# Altium integrated library Xilinx Spartan XL.IntLib: 50 symbols (part 5 of 5)
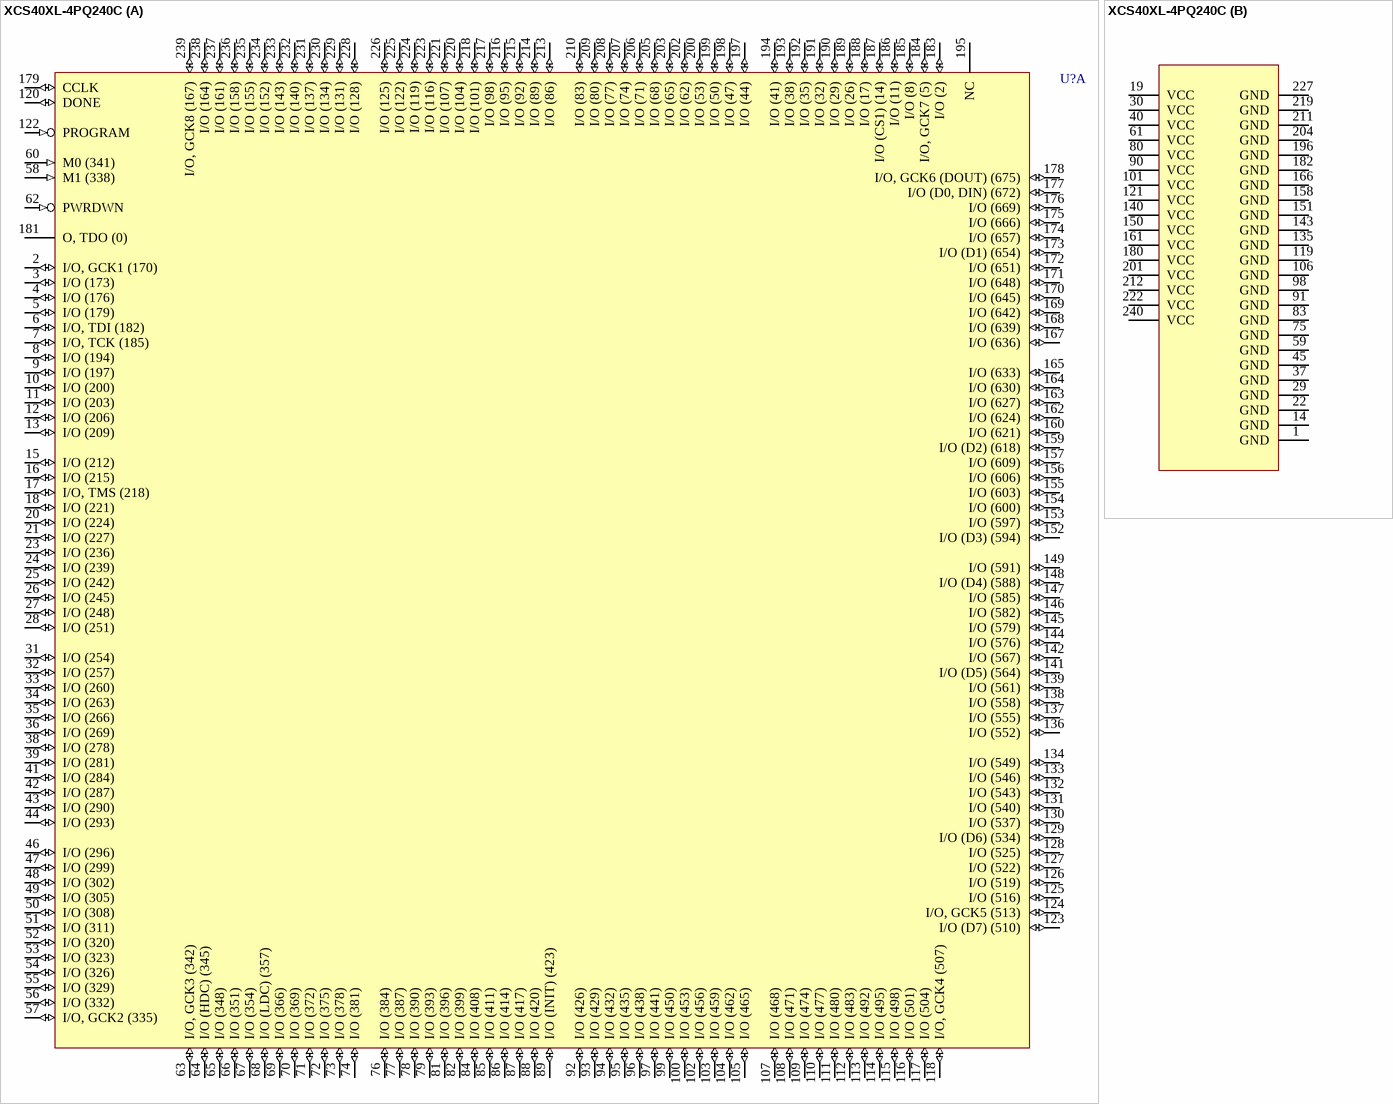
[diagram p36: symbol XCS40XL-4PQ240C]

## XCS40XL-4PQ240C
designator U?
Spartan XL FPGA, 240-Pin PQFP, Commercial Grade; Published: 13-Jul-2001; LatestRevisionDate: 13-Apr-2006; LatestRevisionNote: IPC-7351 Footprint Added.; DatasheetVersion: Jun-2002; PackageVersion: ver1.2, Jun-2004; PackageReference: PQ240; Publisher: Altium Limited; PackageDescription: 240-Pin Plastic Quad Flat Pack (PQ240); Code_JEDEC: MO-143-GA; ComponentLink1Description: Manufacturer Link; ComponentLink1URL: http://www.xilinx.com/xlnx/xil_prodcat_landingpage.jsp?title=Spartan; ComponentLink2Description: Datasheet; ComponentLink2URL: http://www.xilinx.com/bvdocs/publications/ds060.pdf
footprint PQ240_N (Shrink QFP, 240-Leads, Body 32x32mm, Pitch 0.5mm, IPC Medium Density)
footprint PQ240_L (Shrink QFP, 240-Leads, Body 32x32mm, Pitch 0.5mm, IPC High Density)
footprint PQ240_M (Shrink QFP, 240-Leads, Body 32x32mm, Pitch 0.5mm, IPC Low Density)
3D model XCS40XL-PQ240 (240-Pin Plastic Quad Flat Pack (PQ240))
part A pins: 2 I/O, GCK1 (170) (io), 3 I/O (173) (io), 4 I/O (176) (io), 5 I/O (179) (io), 6 I/O, TDI (182) (io), 7 I/O, TCK (185) (io), 8 I/O (194) (io), 9 I/O (197) (io), 10 I/O (200) (io), 11 I/O (203) (io), 12 I/O (206) (io), 13 I/O (209) (io), 15 I/O (212) (io), 16 I/O (215) (io), 17 I/O, TMS (218) (io), 18 I/O (221) (io), 20 I/O (224) (io), 21 I/O (227) (io), 23 I/O (236) (io), 24 I/O (239) (io), 25 I/O (242) (io), 26 I/O (245) (io), 27 I/O (248) (io), 28 I/O (251) (io), 31 I/O (254) (io), 32 I/O (257) (io), 33 I/O (260) (io), 34 I/O (263) (io), 35 I/O (266) (io), 36 I/O (269) (io), 38 I/O (278) (io), 39 I/O (281) (io), 41 I/O (284) (io), 42 I/O (287) (io), 43 I/O (290) (io), 44 I/O (293) (io), 46 I/O (296) (io), 47 I/O (299) (io), 48 I/O (302) (io), 49 I/O (305) (io), 50 I/O (308) (io), 51 I/O (311) (io), 52 I/O (320) (io), 53 I/O (323) (io), 54 I/O (326) (io), 55 I/O (329) (io), 56 I/O (332) (io), 57 I/O, GCK2 (335) (io), 58 M1 (338) (in), 60 M0 (341) (in), 62 PWRDWN (in), 63 I/O, GCK3 (342) (io), 64 I/O (HDC) (345) (io), 65 I/O (348) (io), 66 I/O (351) (io), 67 I/O (354) (io), 68 I/O (LDC) (357) (io), 69 I/O (366) (io), 70 I/O (369) (io), 71 I/O (372) (io), 72 I/O (375) (io), 73 I/O (378) (io), 74 I/O (381) (io), 76 I/O (384) (io), 77 I/O (387) (io), 78 I/O (390) (io), 79 I/O (393) (io), 81 I/O (396) (io), 82 I/O (399) (io), 84 I/O (408) (io), 85 I/O (411) (io), 86 I/O (414) (io), 87 I/O (417) (io), 88 I/O (420) (io), 89 I/O (INIT) (423) (io), 92 I/O (426) (io), 93 I/O (429) (io), 94 I/O (432) (io), 95 I/O (435) (io), 96 I/O (438) (io), 97 I/O (441) (io), 99 I/O (450) (io), 100 I/O (453) (io), 102 I/O (456) (io), 103 I/O (459) (io), 104 I/O (462) (io), 105 I/O (465) (io), 107 I/O (468) (io), 108 I/O (471) (io), 109 I/O (474) (io), 110 I/O (477) (io), 111 I/O (480) (io), 112 I/O (483) (io), 113 I/O (492) (io), 114 I/O (495) (io), 115 I/O (498) (io), 116 I/O (501) (io), 117 I/O (504) (io), 118 I/O, GCK4 (507) (io), 120 DONE (io), 122 PROGRAM (in), 123 I/O (D7) (510) (io), 124 I/O, GCK5 (513) (io), 125 I/O (516) (io), 126 I/O (519) (io), 127 I/O (522) (io), 128 I/O (525) (io), 129 I/O (D6) (534) (io), 130 I/O (537) (io), 131 I/O (540) (io), 132 I/O (543) (io), 133 I/O (546) (io), 134 I/O (549) (io), 136 I/O (552) (io), 137 I/O (555) (io), 138 I/O (558) (io), 139 I/O (561) (io), 141 I/O (D5) (564) (io), 142 I/O (567) (io), 144 I/O (576) (io), 145 I/O (579) (io), 146 I/O (582) (io), 147 I/O (585) (io), 148 I/O (D4) (588) (io), 149 I/O (591) (io), 152 I/O (D3) (594) (io), 153 I/O (597) (io), 154 I/O (600) (io), 155 I/O (603) (io), 156 I/O (606) (io), 157 I/O (609) (io), 159 I/O (D2) (618) (io), 160 I/O (621) (io), 162 I/O (624) (io), 163 I/O (627) (io), 164 I/O (630) (io), 165 I/O (633) (io), 167 I/O (636) (io), 168 I/O (639) (io), 169 I/O (642) (io), 170 I/O (645) (io), 171 I/O (648) (io), 172 I/O (651) (io), 173 I/O (D1) (654) (io), 174 I/O (657) (io), 175 I/O (666) (io), 176 I/O (669) (io), 177 I/O (D0, DIN) (672) (io), 178 I/O, GCK6 (DOUT) (675) (io), 179 CCLK (io), 181 O, TDO (0) (hiz), 183 I/O (2) (io), 184 I/O, GCK7 (5) (io), 185 I/O (8) (io), 186 I/O (11) (io), 187 I/O (CS1) (14) (io), 188 I/O (17) (io), 189 I/O (26) (io), 190 I/O (29) (io), 191 I/O (32) (io), 192 I/O (35) (io), 193 I/O (38) (io), 194 I/O (41) (io), 195 NC, 197 I/O (44) (io), 198 I/O (47) (io), 199 I/O (50) (io), 200 I/O (53) (io), 202 I/O (62) (io), 203 I/O (65) (io), 205 I/O (68) (io), 206 I/O (71) (io), 207 I/O (74) (io), 208 I/O (77) (io), 209 I/O (80) (io), 210 I/O (83) (io), 213 I/O (86) (io), 214 I/O (89) (io), 215 I/O (92) (io), 216 I/O (95) (io), 217 I/O (98) (io), 218 I/O (101) (io), 220 I/O (104) (io), 221 I/O (107) (io), 223 I/O (116) (io), 224 I/O (119) (io), 225 I/O (122) (io), 226 I/O (125) (io), 228 I/O (128) (io), 229 I/O (131) (io), 230 I/O (134) (io), 231 I/O (137) (io), 232 I/O (140) (io), 233 I/O (143) (io), 234 I/O (152) (io), 235 I/O (155) (io), 236 I/O (158) (io), 237 I/O (161) (io), 238 I/O (164) (io), 239 I/O, GCK8 (167) (io)
part B pins: 1 GND (power), 14 GND (power), 19 VCC (power), 22 GND (power), 29 GND (power), 30 VCC (power), 37 GND (power), 40 VCC (power), 45 GND (power), 59 GND (power), 61 VCC (power), 75 GND (power), 80 VCC (power), 83 GND (power), 90 VCC (power), 91 GND (power), 98 GND (power), 101 VCC (power), 106 GND (power), 119 GND (power), 121 VCC (power), 135 GND (power), 140 VCC (power), 143 GND (power), 150 VCC (power), 151 GND (power), 158 GND (power), 161 VCC (power), 166 GND (power), 180 VCC (power), 182 GND (power), 196 GND (power), 201 VCC (power), 204 GND (power), 211 GND (power), 212 VCC (power), 219 GND (power), 222 VCC (power), 227 GND (power), 240 VCC (power)

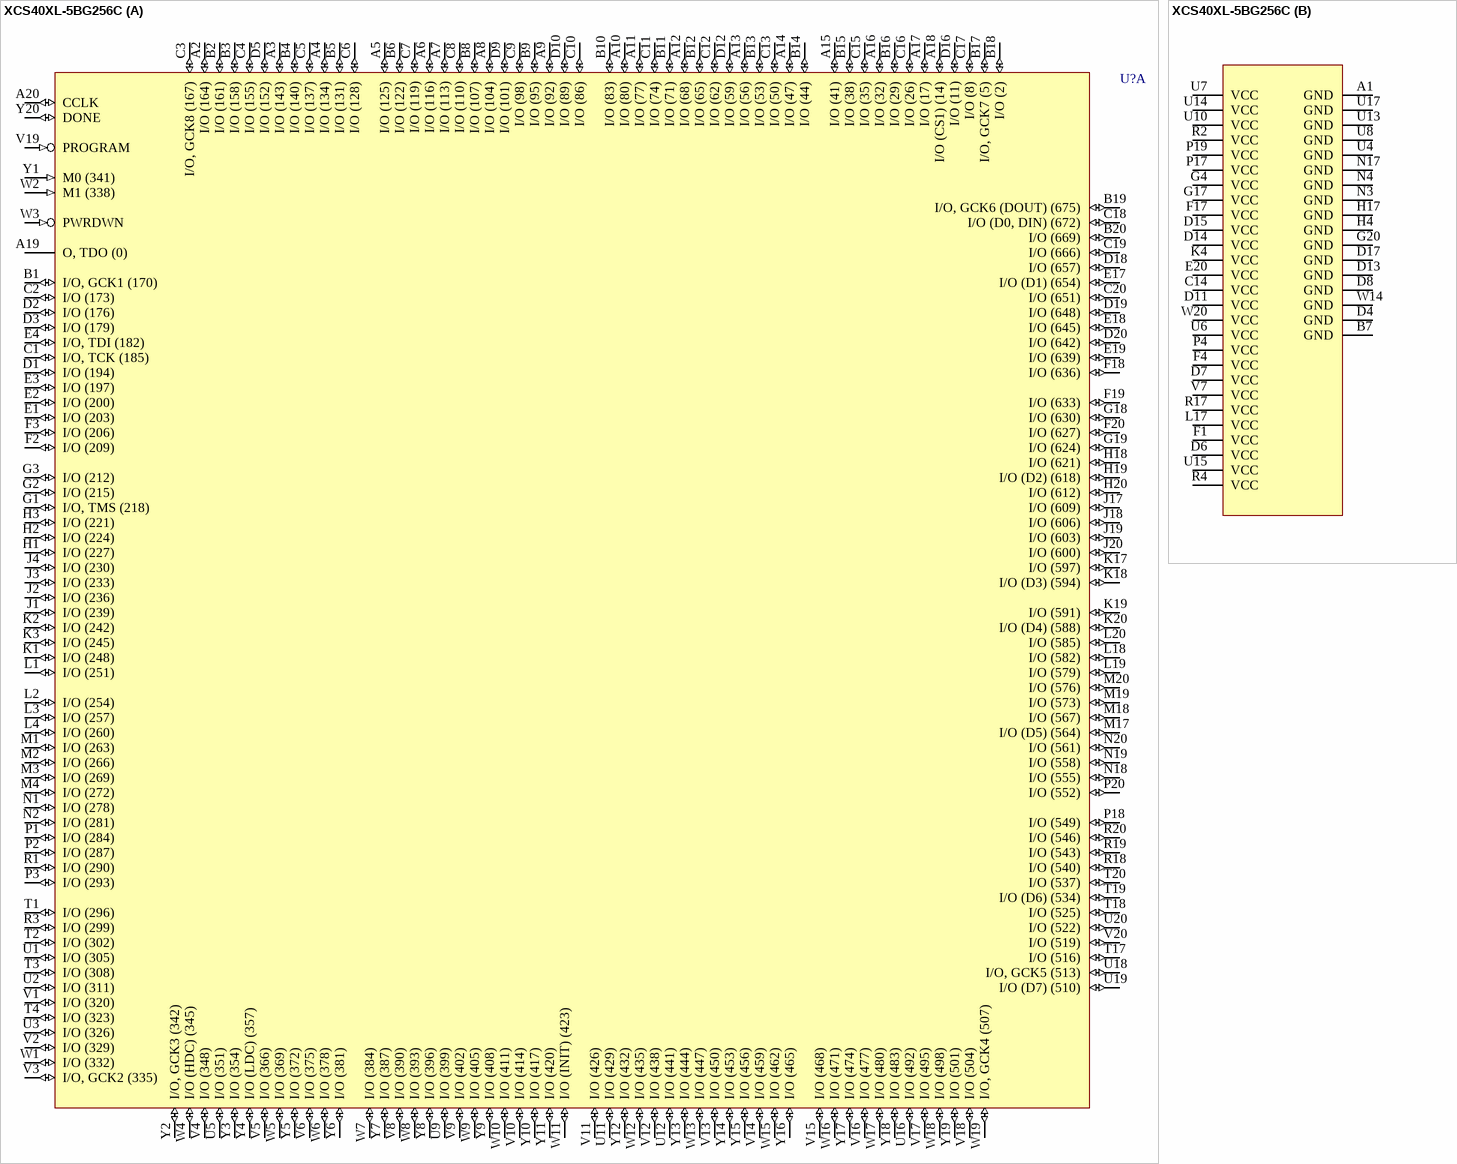
[diagram p29: symbol XCS40XL-5BG256C]

## XCS40XL-5BG256C
designator U?
Spartan XL FPGA, 256-Ball BGA, Commercial Grade; Published: 13-Jul-2001; LatestRevisionDate: 13-Apr-2006; LatestRevisionNote: IPC-7351 Footprint Added.; DatasheetVersion: Jun-2002; PackageVersion: ver1.1, Apr-2001; PackageReference: BG256; Publisher: Altium Limited; PackageDescription: 256-Ball Plastic Ball Grid Array (BG256); Code_JEDEC: MS-034-BAL-2; ComponentLink1Description: Manufacturer Link; ComponentLink1URL: http://www.xilinx.com/xlnx/xil_prodcat_landingpage.jsp?title=Spartan; ComponentLink2Description: Datasheet; ComponentLink2URL: http://www.xilinx.com/bvdocs/publications/ds060.pdf
footprint BG256 (BGA, 256-Leads, Body 27x27mm, Pitch 1.27mm)
3D model XCS40XL-BG256 (256-Ball Plastic Ball Grid Array (BG256))
part A pins: A2 I/O (164) (io), A3 I/O (143) (io), A4 I/O (134) (io), A5 I/O (125) (io), A6 I/O (116) (io), A7 I/O (113) (io), A8 I/O (104) (io), A9 I/O (92) (io), A10 I/O (80) (io), A11 I/O (77) (io), A12 I/O (68) (io), A13 I/O (56) (io), A14 I/O (47) (io), A15 I/O (41) (io), A16 I/O (32) (io), A17 I/O (17) (io), A18 I/O (CS1) (14) (io), A19 O, TDO (0) (hiz), A20 CCLK (io), B1 I/O, GCK1 (170) (io), B2 I/O (161) (io), B3 I/O (158) (io), B4 I/O (140) (io), B5 I/O (131) (io), B6 I/O (122) (io), B8 I/O (107) (io), B9 I/O (95) (io), B10 I/O (83) (io), B11 I/O (71) (io), B12 I/O (65) (io), B13 I/O (53) (io), B14 I/O (44) (io), B15 I/O (38) (io), B16 I/O (29) (io), B17 I/O, GCK7 (5) (io), B18 I/O (2) (io), B19 I/O, GCK6 (DOUT) (675) (io), B20 I/O (669) (io), C1 I/O, TCK (185) (io), C2 I/O (173) (io), C3 I/O, GCK8 (167) (io), C4 I/O (155) (io), C5 I/O (137) (io), C6 I/O (128) (io), C7 I/O (119) (io), C8 I/O (110) (io), C9 I/O (98) (io), C10 I/O (86) (io), C11 I/O (74) (io), C12 I/O (62) (io), C13 I/O (50) (io), C15 I/O (35) (io), C16 I/O (26) (io), C17 I/O (8) (io), C18 I/O (D0, DIN) (672) (io), C19 I/O (666) (io), C20 I/O (651) (io), D1 I/O (194) (io), D2 I/O (176) (io), D3 I/O (179) (io), D5 I/O (152) (io), D9 I/O (101) (io), D10 I/O (89) (io), D12 I/O (59) (io), D16 I/O (11) (io), D18 I/O (657) (io), D19 I/O (648) (io), D20 I/O (642) (io), E1 I/O (203) (io), E2 I/O (200) (io), E3 I/O (197) (io), E4 I/O, TDI (182) (io), E17 I/O (D1) (654) (io), E18 I/O (645) (io), E19 I/O (639) (io), F2 I/O (209) (io), F3 I/O (206) (io), F18 I/O (636) (io), F19 I/O (633) (io), F20 I/O (627) (io), G1 I/O, TMS (218) (io), G2 I/O (215) (io), G3 I/O (212) (io), G18 I/O (630) (io), G19 I/O (624) (io), H1 I/O (227) (io), H2 I/O (224) (io), H3 I/O (221) (io), H18 I/O (621) (io), H19 I/O (D2) (618) (io), H20 I/O (612) (io), J1 I/O (239) (io), J2 I/O (236) (io), J3 I/O (233) (io), J4 I/O (230) (io), J17 I/O (609) (io), J18 I/O (606) (io), J19 I/O (603) (io), J20 I/O (600) (io), K1 I/O (248) (io), K2 I/O (242) (io), K3 I/O (245) (io), K17 I/O (597) (io), K18 I/O (D3) (594) (io), K19 I/O (591) (io), K20 I/O (D4) (588) (io), L1 I/O (251) (io), L2 I/O (254) (io), L3 I/O (257) (io), L4 I/O (260) (io), L18 I/O (582) (io), L19 I/O (579) (io), L20 I/O (585) (io), M1 I/O (263) (io), M2 I/O (266) (io), M3 I/O (269) (io), M4 I/O (272) (io), M17 I/O (D5) (564) (io), M18 I/O (567) (io), M19 I/O (573) (io), M20 I/O (576) (io), N1 I/O (278) (io), N2 I/O (281) (io), N18 I/O (555) (io), N19 I/O (558) (io), N20 I/O (561) (io), P1 I/O (284) (io), P2 I/O (287) (io), P3 I/O (293) (io), P18 I/O (549) (io), P20 I/O (552) (io), R1 I/O (290) (io), R3 I/O (299) (io), R18 I/O (540) (io), R19 I/O (543) (io), R20 I/O (546) (io), T1 I/O (296) (io), T2 I/O (302) (io), T3 I/O (308) (io), T4 I/O (323) (io), T17 I/O (516) (io), T18 I/O (525) (io), T19 I/O (D6) (534) (io), T20 I/O (537) (io), U1 I/O (305) (io), U2 I/O (311) (io), U3 I/O (326) (io), U5 I/O (351) (io), U9 I/O (399) (io), U11 I/O (429) (io), U12 I/O (441) (io), U16 I/O (492) (io), U18 I/O, GCK5 (513) (io), U19 I/O (D7) (510) (io), U20 I/O (522) (io), V1 I/O (320) (io), V2 I/O (329) (io), V3 I/O, GCK2 (335) (io), V4 I/O (348) (io), V5 I/O (366) (io), V6 I/O (375) (io), V8 I/O (390) (io), V9 I/O (402) (io), V10 I/O (414) (io), V11 I/O (426) (io), V12 I/O (438) (io), V13 I/O (450) (io), V14 I/O (459) (io), V15 I/O (468) (io), V16 I/O (477) (io), V17 I/O (495) (io), V18 I/O (504) (io), V19 PROGRAM (in), V20 I/O (519) (io), W1 I/O (332) (io), W2 M1 (338) (in), W3 PWRDWN (in), W4 I/O (HDC) (345) (io), W5 I/O (369) (io), W6 I/O (378) (io), W7 I/O (384) (io), W8 I/O (393) (io), W9 I/O (405) (io), W10 I/O (411) (io), W11 I/O (INIT) (423) (io), W12 I/O (435) (io), W13 I/O (447) (io), W15 I/O (462) (io), W16 I/O (471) (io), W17 I/O (480) (io), W18 I/O (498) (io), W19 I/O, GCK4 (507) (io), Y1 M0 (341) (in), Y2 I/O, GCK3 (342) (io), Y3 I/O (354) (io), Y4 I/O (LDC) (357) (io), Y5 I/O (372) (io), Y6 I/O (381) (io), Y7 I/O (387) (io), Y8 I/O (396) (io), Y9 I/O (408) (io), Y10 I/O (417) (io), Y11 I/O (420) (io), Y12 I/O (432) (io), Y13 I/O (444) (io), Y14 I/O (453) (io), Y15 I/O (456) (io), Y16 I/O (465) (io), Y17 I/O (474) (io), Y18 I/O (483) (io), Y19 I/O (501) (io), Y20 DONE (io)
part B pins: A1 GND (power), B7 GND (power), C14 VCC (power), D4 GND (power), D6 VCC (power), D7 VCC (power), D8 GND (power), D11 VCC (power), D13 GND (power), D14 VCC (power), D15 VCC (power), D17 GND (power), E20 VCC (power), F1 VCC (power), F4 VCC (power), F17 VCC (power), G4 VCC (power), G17 VCC (power), G20 GND (power), H4 GND (power), H17 GND (power), K4 VCC (power), L17 VCC (power), N3 GND (power), N4 GND (power), N17 GND (power), P4 VCC (power), P17 VCC (power), P19 VCC (power), R2 VCC (power), R4 VCC (power), R17 VCC (power), U4 GND (power), U6 VCC (power), U7 VCC (power), U8 GND (power), U10 VCC (power), U13 GND (power), U14 VCC (power), U15 VCC (power), U17 GND (power), V7 VCC (power), W14 GND (power), W20 VCC (power)

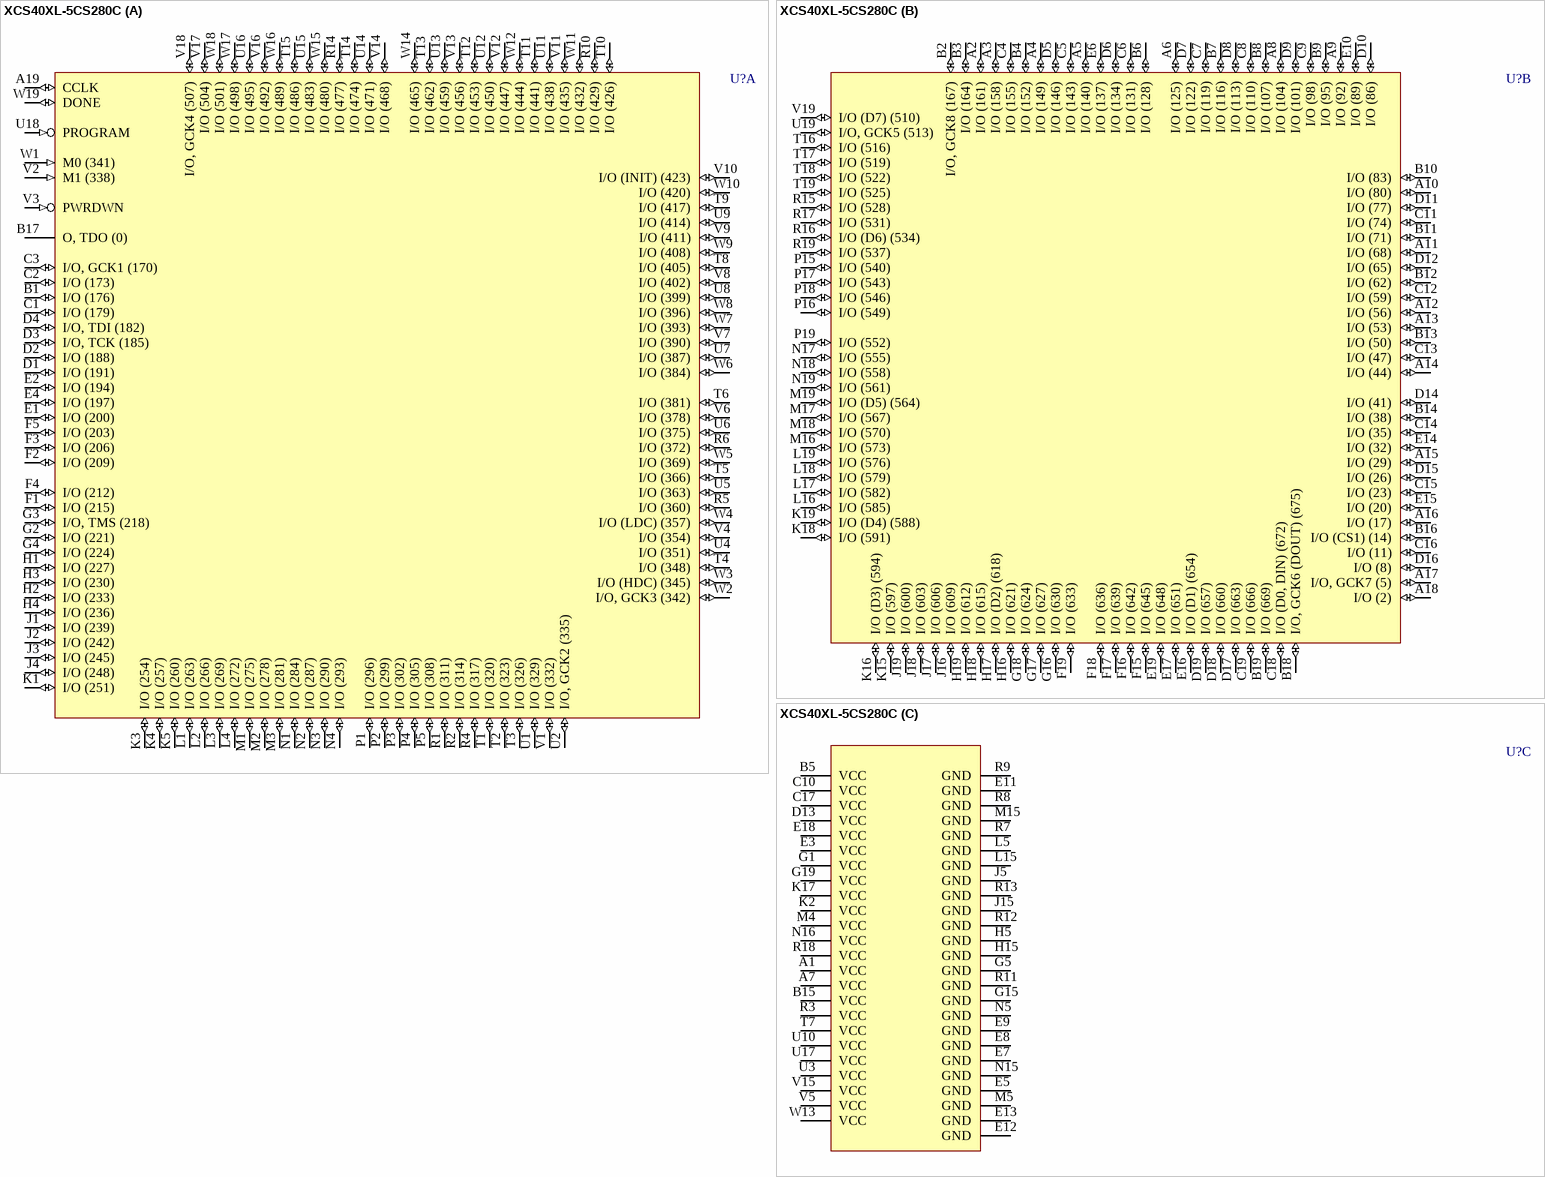
[diagram p30: symbol XCS40XL-5CS280C]

## XCS40XL-5CS280C
designator U?
Spartan XL FPGA, 280-Ball CSBGA, Commercial Grade; Published: 13-Jul-2001; LatestRevisionDate: 13-Apr-2006; LatestRevisionNote: IPC-7351 Footprint Added.; DatasheetVersion: Jun-2002; PackageVersion: ver1.2.2, Nov-2005; PackageReference: CS280; Publisher: Altium Limited; PackageDescription: 280-Ball Chip Scale Ball Grid Array (CS280); Code_JEDEC: MO-216-BAL-1 (Depopulated); ComponentLink1Description: Manufacturer Link; ComponentLink1URL: http://www.xilinx.com/xlnx/xil_prodcat_landingpage.jsp?title=Spartan; ComponentLink2Description: Datasheet; ComponentLink2URL: http://www.xilinx.com/bvdocs/publications/ds060.pdf
footprint CS280 (BGA, 280-Leads, Body 16x16mm, Pitch 0.8mm)
3D model XCS40XL-CS280 (280-Ball Chip Scale Ball Grid Array (CS280))
part A pins: A19 CCLK (io), B1 I/O (176) (io), B17 O, TDO (0) (hiz), C1 I/O (179) (io), C2 I/O (173) (io), C3 I/O, GCK1 (170) (io), D1 I/O (191) (io), D2 I/O (188) (io), D3 I/O, TCK (185) (io), D4 I/O, TDI (182) (io), E1 I/O (200) (io), E2 I/O (194) (io), E4 I/O (197) (io), F1 I/O (215) (io), F2 I/O (209) (io), F3 I/O (206) (io), F4 I/O (212) (io), F5 I/O (203) (io), G2 I/O (221) (io), G3 I/O, TMS (218) (io), G4 I/O (224) (io), H1 I/O (227) (io), H2 I/O (233) (io), H3 I/O (230) (io), H4 I/O (236) (io), J1 I/O (239) (io), J2 I/O (242) (io), J3 I/O (245) (io), J4 I/O (248) (io), K1 I/O (251) (io), K3 I/O (254) (io), K4 I/O (257) (io), K5 I/O (260) (io), L1 I/O (263) (io), L2 I/O (266) (io), L3 I/O (269) (io), L4 I/O (272) (io), M1 I/O (275) (io), M2 I/O (278) (io), M3 I/O (281) (io), N1 I/O (284) (io), N2 I/O (287) (io), N3 I/O (290) (io), N4 I/O (293) (io), P1 I/O (296) (io), P2 I/O (299) (io), P3 I/O (302) (io), P4 I/O (305) (io), P5 I/O (308) (io), R1 I/O (311) (io), R2 I/O (314) (io), R4 I/O (317) (io), R5 I/O (360) (io), R6 I/O (372) (io), R10 I/O (429) (io), R14 I/O (477) (io), T1 I/O (320) (io), T2 I/O (323) (io), T3 I/O (326) (io), T4 I/O (348) (io), T5 I/O (366) (io), T6 I/O (381) (io), T8 I/O (405) (io), T9 I/O (417) (io), T10 I/O (426) (io), T11 I/O (441) (io), T12 I/O (453) (io), T13 I/O (462) (io), T14 I/O (474) (io), T15 I/O (486) (io), U1 I/O (329) (io), U2 I/O, GCK2 (335) (io), U4 I/O (351) (io), U5 I/O (363) (io), U6 I/O (375) (io), U7 I/O (387) (io), U8 I/O (399) (io), U9 I/O (414) (io), U11 I/O (438) (io), U12 I/O (450) (io), U13 I/O (459) (io), U14 I/O (471) (io), U15 I/O (483) (io), U16 I/O (495) (io), U18 PROGRAM (in), V1 I/O (332) (io), V2 M1 (338) (in), V3 PWRDWN (in), V4 I/O (354) (io), V6 I/O (378) (io), V7 I/O (390) (io), V8 I/O (402) (io), V9 I/O (411) (io), V10 I/O (INIT) (423) (io), V11 I/O (435) (io), V12 I/O (447) (io), V13 I/O (456) (io), V14 I/O (468) (io), V16 I/O (492) (io), V17 I/O (504) (io), V18 I/O, GCK4 (507) (io), W1 M0 (341) (in), W2 I/O, GCK3 (342) (io), W3 I/O (HDC) (345) (io), W4 I/O (LDC) (357) (io), W5 I/O (369) (io), W6 I/O (384) (io), W7 I/O (393) (io), W8 I/O (396) (io), W9 I/O (408) (io), W10 I/O (420) (io), W11 I/O (432) (io), W12 I/O (444) (io), W14 I/O (465) (io), W15 I/O (480) (io), W16 I/O (489) (io), W17 I/O (498) (io), W18 I/O (501) (io), W19 DONE (io)
part B pins: A2 I/O (161) (io), A3 I/O (158) (io), A4 I/O (149) (io), A5 I/O (140) (io), A6 I/O (125) (io), A8 I/O (104) (io), A9 I/O (92) (io), A10 I/O (80) (io), A11 I/O (68) (io), A12 I/O (56) (io), A13 I/O (53) (io), A14 I/O (44) (io), A15 I/O (29) (io), A16 I/O (17) (io), A17 I/O, GCK7 (5) (io), A18 I/O (2) (io), B2 I/O, GCK8 (167) (io), B3 I/O (164) (io), B4 I/O (152) (io), B6 I/O (128) (io), B7 I/O (116) (io), B8 I/O (107) (io), B9 I/O (95) (io), B10 I/O (83) (io), B11 I/O (71) (io), B12 I/O (62) (io), B13 I/O (50) (io), B14 I/O (38) (io), B16 I/O (CS1) (14) (io), B18 I/O, GCK6 (DOUT) (675) (io), B19 I/O (669) (io), C4 I/O (155) (io), C5 I/O (143) (io), C6 I/O (131) (io), C7 I/O (119) (io), C8 I/O (110) (io), C9 I/O (98) (io), C11 I/O (74) (io), C12 I/O (59) (io), C13 I/O (47) (io), C14 I/O (35) (io), C15 I/O (23) (io), C16 I/O (11) (io), C18 I/O (D0, DIN) (672) (io), C19 I/O (666) (io), D5 I/O (146) (io), D6 I/O (134) (io), D7 I/O (122) (io), D8 I/O (113) (io), D9 I/O (101) (io), D10 I/O (86) (io), D11 I/O (77) (io), D12 I/O (65) (io), D14 I/O (41) (io), D15 I/O (26) (io), D16 I/O (8) (io), D17 I/O (663) (io), D18 I/O (660) (io), D19 I/O (657) (io), E6 I/O (137) (io), E10 I/O (89) (io), E14 I/O (32) (io), E15 I/O (20) (io), E16 I/O (D1) (654) (io), E17 I/O (651) (io), E19 I/O (648) (io), F15 I/O (645) (io), F16 I/O (642) (io), F17 I/O (639) (io), F18 I/O (636) (io), F19 I/O (633) (io), G16 I/O (630) (io), G17 I/O (627) (io), G18 I/O (624) (io), H16 I/O (621) (io), H17 I/O (D2) (618) (io), H18 I/O (615) (io), H19 I/O (612) (io), J16 I/O (609) (io), J17 I/O (606) (io), J18 I/O (603) (io), J19 I/O (600) (io), K15 I/O (597) (io), K16 I/O (D3) (594) (io), K18 I/O (591) (io), K19 I/O (D4) (588) (io), L16 I/O (585) (io), L17 I/O (582) (io), L18 I/O (579) (io), L19 I/O (576) (io), M16 I/O (573) (io), M17 I/O (567) (io), M18 I/O (570) (io), M19 I/O (D5) (564) (io), N17 I/O (555) (io), N18 I/O (558) (io), N19 I/O (561) (io), P15 I/O (540) (io), P16 I/O (549) (io), P17 I/O (543) (io), P18 I/O (546) (io), P19 I/O (552) (io), R15 I/O (528) (io), R16 I/O (D6) (534) (io), R17 I/O (531) (io), R19 I/O (537) (io), T16 I/O (516) (io), T17 I/O (519) (io), T18 I/O (522) (io), T19 I/O (525) (io), U19 I/O, GCK5 (513) (io), V19 I/O (D7) (510) (io)
part C pins: A1 VCC (power), A7 VCC (power), B5 VCC (power), B15 VCC (power), C10 VCC (power), C17 VCC (power), D13 VCC (power), E3 VCC (power), E5 GND (power), E7 GND (power), E8 GND (power), E9 GND (power), E11 GND (power), E12 GND (power), E13 GND (power), E18 VCC (power), G1 VCC (power), G5 GND (power), G15 GND (power), G19 VCC (power), H5 GND (power), H15 GND (power), J5 GND (power), J15 GND (power), K2 VCC (power), K17 VCC (power), L5 GND (power), L15 GND (power), M4 VCC (power), M5 GND (power), M15 GND (power), N5 GND (power), N15 GND (power), N16 VCC (power), R3 VCC (power), R7 GND (power), R8 GND (power), R9 GND (power), R11 GND (power), R12 GND (power), R13 GND (power), R18 VCC (power), T7 VCC (power), U3 VCC (power), U10 VCC (power), U17 VCC (power), V5 VCC (power), V15 VCC (power), W13 VCC (power)

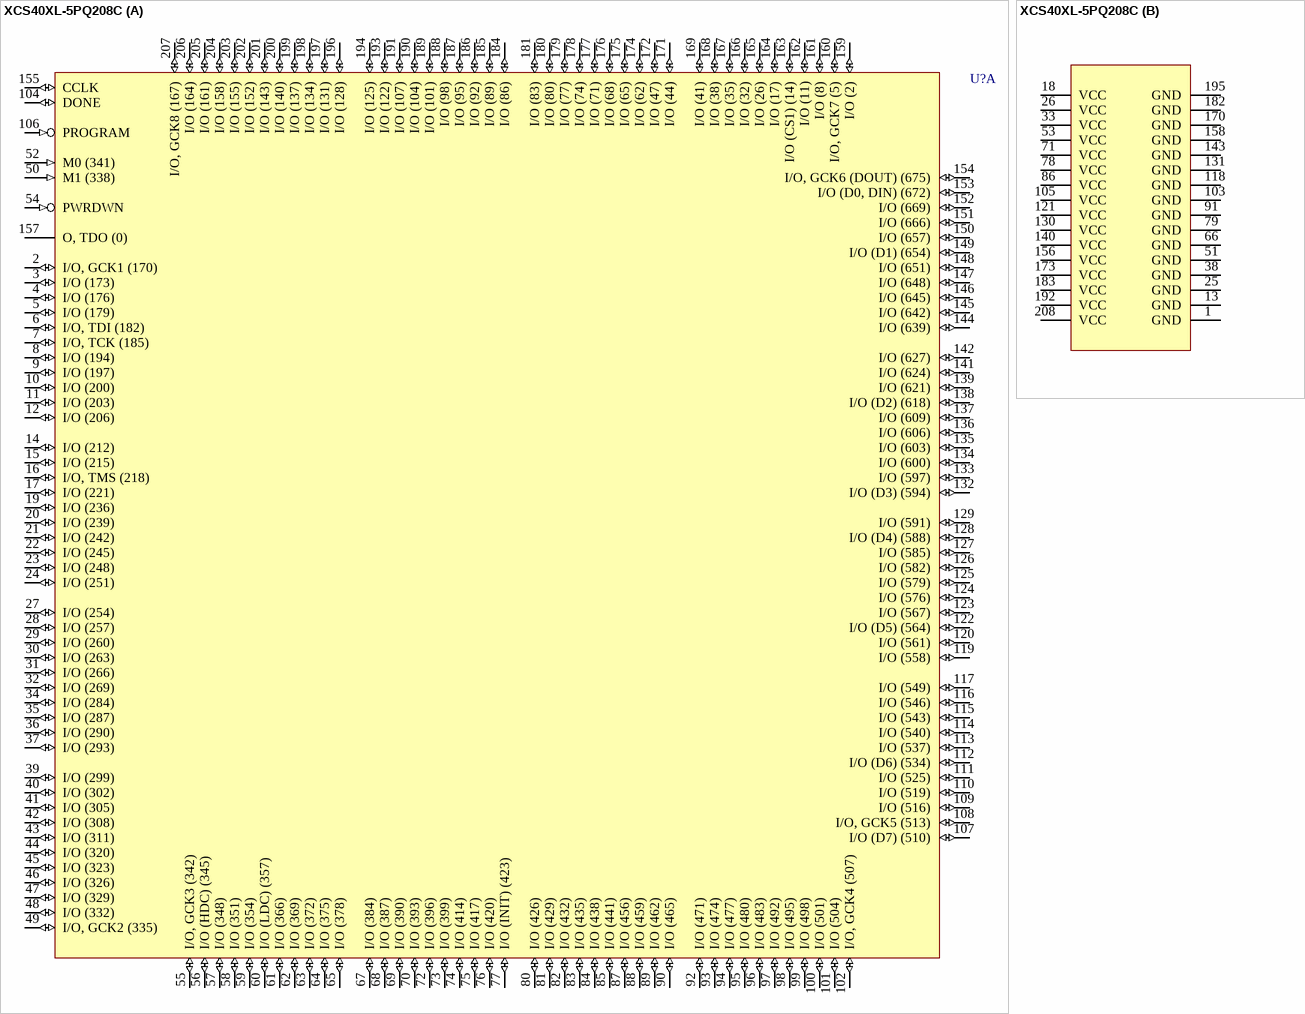
[diagram p31: symbol XCS40XL-5PQ208C]

## XCS40XL-5PQ208C
designator U?
Spartan XL FPGA, 208-Pin PQFP, Commercial Grade; Published: 13-Jul-2001; LatestRevisionDate: 13-Apr-2006; LatestRevisionNote: IPC-7351 Footprint Added.; DatasheetVersion: Jun-2002; PackageVersion: ver1.2, Jun-2004; PackageReference: PQ208; Publisher: Altium Limited; PackageDescription: 208-Pin Plastic Quad Flat Pack (PQ208); Code_JEDEC: MS-029-FA-1; ComponentLink1Description: Manufacturer Link; ComponentLink1URL: http://www.xilinx.com/xlnx/xil_prodcat_landingpage.jsp?title=Spartan; ComponentLink2Description: Datasheet; ComponentLink2URL: http://www.xilinx.com/bvdocs/publications/ds060.pdf
footprint PQ208_N (Shrink QFP, 208-Leads, Body 28x28mm, Pitch 0.5mm, IPC Medium Density)
footprint PQ208_L (Shrink QFP, 208-Leads, Body 28x28mm, Pitch 0.5mm, IPC High Density)
footprint PQ208_M (Shrink QFP, 208-Leads, Body 28x28mm, Pitch 0.5mm, IPC Low Density)
3D model XCS40XL-PQ208 (208-Pin Plastic Quad Flat Pack (PQ208))
part A pins: 2 I/O, GCK1 (170) (io), 3 I/O (173) (io), 4 I/O (176) (io), 5 I/O (179) (io), 6 I/O, TDI (182) (io), 7 I/O, TCK (185) (io), 8 I/O (194) (io), 9 I/O (197) (io), 10 I/O (200) (io), 11 I/O (203) (io), 12 I/O (206) (io), 14 I/O (212) (io), 15 I/O (215) (io), 16 I/O, TMS (218) (io), 17 I/O (221) (io), 19 I/O (236) (io), 20 I/O (239) (io), 21 I/O (242) (io), 22 I/O (245) (io), 23 I/O (248) (io), 24 I/O (251) (io), 27 I/O (254) (io), 28 I/O (257) (io), 29 I/O (260) (io), 30 I/O (263) (io), 31 I/O (266) (io), 32 I/O (269) (io), 34 I/O (284) (io), 35 I/O (287) (io), 36 I/O (290) (io), 37 I/O (293) (io), 39 I/O (299) (io), 40 I/O (302) (io), 41 I/O (305) (io), 42 I/O (308) (io), 43 I/O (311) (io), 44 I/O (320) (io), 45 I/O (323) (io), 46 I/O (326) (io), 47 I/O (329) (io), 48 I/O (332) (io), 49 I/O, GCK2 (335) (io), 50 M1 (338) (in), 52 M0 (341) (in), 54 PWRDWN (in), 55 I/O, GCK3 (342) (io), 56 I/O (HDC) (345) (io), 57 I/O (348) (io), 58 I/O (351) (io), 59 I/O (354) (io), 60 I/O (LDC) (357) (io), 61 I/O (366) (io), 62 I/O (369) (io), 63 I/O (372) (io), 64 I/O (375) (io), 65 I/O (378) (io), 67 I/O (384) (io), 68 I/O (387) (io), 69 I/O (390) (io), 70 I/O (393) (io), 72 I/O (396) (io), 73 I/O (399) (io), 74 I/O (414) (io), 75 I/O (417) (io), 76 I/O (420) (io), 77 I/O (INIT) (423) (io), 80 I/O (426) (io), 81 I/O (429) (io), 82 I/O (432) (io), 83 I/O (435) (io), 84 I/O (438) (io), 85 I/O (441) (io), 87 I/O (456) (io), 88 I/O (459) (io), 89 I/O (462) (io), 90 I/O (465) (io), 92 I/O (471) (io), 93 I/O (474) (io), 94 I/O (477) (io), 95 I/O (480) (io), 96 I/O (483) (io), 97 I/O (492) (io), 98 I/O (495) (io), 99 I/O (498) (io), 100 I/O (501) (io), 101 I/O (504) (io), 102 I/O, GCK4 (507) (io), 104 DONE (io), 106 PROGRAM (in), 107 I/O (D7) (510) (io), 108 I/O, GCK5 (513) (io), 109 I/O (516) (io), 110 I/O (519) (io), 111 I/O (525) (io), 112 I/O (D6) (534) (io), 113 I/O (537) (io), 114 I/O (540) (io), 115 I/O (543) (io), 116 I/O (546) (io), 117 I/O (549) (io), 119 I/O (558) (io), 120 I/O (561) (io), 122 I/O (D5) (564) (io), 123 I/O (567) (io), 124 I/O (576) (io), 125 I/O (579) (io), 126 I/O (582) (io), 127 I/O (585) (io), 128 I/O (D4) (588) (io), 129 I/O (591) (io), 132 I/O (D3) (594) (io), 133 I/O (597) (io), 134 I/O (600) (io), 135 I/O (603) (io), 136 I/O (606) (io), 137 I/O (609) (io), 138 I/O (D2) (618) (io), 139 I/O (621) (io), 141 I/O (624) (io), 142 I/O (627) (io), 144 I/O (639) (io), 145 I/O (642) (io), 146 I/O (645) (io), 147 I/O (648) (io), 148 I/O (651) (io), 149 I/O (D1) (654) (io), 150 I/O (657) (io), 151 I/O (666) (io), 152 I/O (669) (io), 153 I/O (D0, DIN) (672) (io), 154 I/O, GCK6 (DOUT) (675) (io), 155 CCLK (io), 157 O, TDO (0) (hiz), 159 I/O (2) (io), 160 I/O, GCK7 (5) (io), 161 I/O (8) (io), 162 I/O (11) (io), 163 I/O (CS1) (14) (io), 164 I/O (17) (io), 165 I/O (26) (io), 166 I/O (32) (io), 167 I/O (35) (io), 168 I/O (38) (io), 169 I/O (41) (io), 171 I/O (44) (io), 172 I/O (47) (io), 174 I/O (62) (io), 175 I/O (65) (io), 176 I/O (68) (io), 177 I/O (71) (io), 178 I/O (74) (io), 179 I/O (77) (io), 180 I/O (80) (io), 181 I/O (83) (io), 184 I/O (86) (io), 185 I/O (89) (io), 186 I/O (92) (io), 187 I/O (95) (io), 188 I/O (98) (io), 189 I/O (101) (io), 190 I/O (104) (io), 191 I/O (107) (io), 193 I/O (122) (io), 194 I/O (125) (io), 196 I/O (128) (io), 197 I/O (131) (io), 198 I/O (134) (io), 199 I/O (137) (io), 200 I/O (140) (io), 201 I/O (143) (io), 202 I/O (152) (io), 203 I/O (155) (io), 204 I/O (158) (io), 205 I/O (161) (io), 206 I/O (164) (io), 207 I/O, GCK8 (167) (io)
part B pins: 1 GND (power), 13 GND (power), 18 VCC (power), 25 GND (power), 26 VCC (power), 33 VCC (power), 38 GND (power), 51 GND (power), 53 VCC (power), 66 GND (power), 71 VCC (power), 78 VCC (power), 79 GND (power), 86 VCC (power), 91 GND (power), 103 GND (power), 105 VCC (power), 118 GND (power), 121 VCC (power), 130 VCC (power), 131 GND (power), 140 VCC (power), 143 GND (power), 156 VCC (power), 158 GND (power), 170 GND (power), 173 VCC (power), 182 GND (power), 183 VCC (power), 192 VCC (power), 195 GND (power), 208 VCC (power)

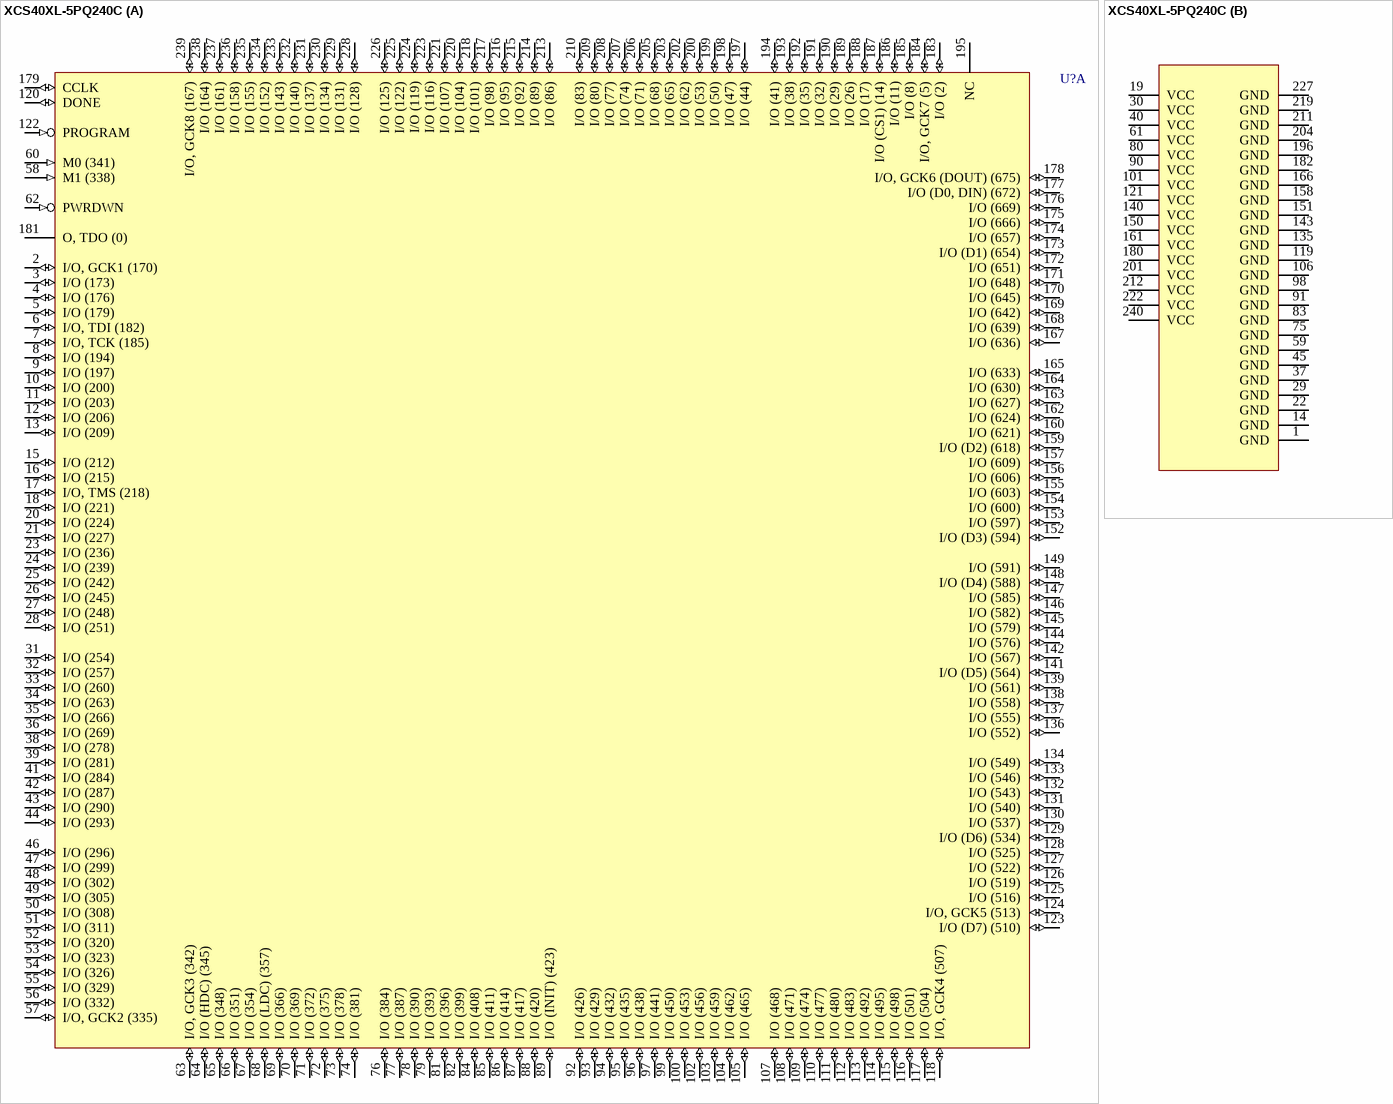
[diagram p32: symbol XCS40XL-5PQ240C]

## XCS40XL-5PQ240C
designator U?
Spartan XL FPGA, 240-Pin PQFP, Commercial Grade; Published: 13-Jul-2001; LatestRevisionDate: 13-Apr-2006; LatestRevisionNote: IPC-7351 Footprint Added.; DatasheetVersion: Jun-2002; PackageVersion: ver1.2, Jun-2004; PackageReference: PQ240; Publisher: Altium Limited; PackageDescription: 240-Pin Plastic Quad Flat Pack (PQ240); Code_JEDEC: MO-143-GA; ComponentLink1Description: Manufacturer Link; ComponentLink1URL: http://www.xilinx.com/xlnx/xil_prodcat_landingpage.jsp?title=Spartan; ComponentLink2Description: Datasheet; ComponentLink2URL: http://www.xilinx.com/bvdocs/publications/ds060.pdf
footprint PQ240_N (Shrink QFP, 240-Leads, Body 32x32mm, Pitch 0.5mm, IPC Medium Density)
footprint PQ240_L (Shrink QFP, 240-Leads, Body 32x32mm, Pitch 0.5mm, IPC High Density)
footprint PQ240_M (Shrink QFP, 240-Leads, Body 32x32mm, Pitch 0.5mm, IPC Low Density)
3D model XCS40XL-PQ240 (240-Pin Plastic Quad Flat Pack (PQ240))
part A pins: 2 I/O, GCK1 (170) (io), 3 I/O (173) (io), 4 I/O (176) (io), 5 I/O (179) (io), 6 I/O, TDI (182) (io), 7 I/O, TCK (185) (io), 8 I/O (194) (io), 9 I/O (197) (io), 10 I/O (200) (io), 11 I/O (203) (io), 12 I/O (206) (io), 13 I/O (209) (io), 15 I/O (212) (io), 16 I/O (215) (io), 17 I/O, TMS (218) (io), 18 I/O (221) (io), 20 I/O (224) (io), 21 I/O (227) (io), 23 I/O (236) (io), 24 I/O (239) (io), 25 I/O (242) (io), 26 I/O (245) (io), 27 I/O (248) (io), 28 I/O (251) (io), 31 I/O (254) (io), 32 I/O (257) (io), 33 I/O (260) (io), 34 I/O (263) (io), 35 I/O (266) (io), 36 I/O (269) (io), 38 I/O (278) (io), 39 I/O (281) (io), 41 I/O (284) (io), 42 I/O (287) (io), 43 I/O (290) (io), 44 I/O (293) (io), 46 I/O (296) (io), 47 I/O (299) (io), 48 I/O (302) (io), 49 I/O (305) (io), 50 I/O (308) (io), 51 I/O (311) (io), 52 I/O (320) (io), 53 I/O (323) (io), 54 I/O (326) (io), 55 I/O (329) (io), 56 I/O (332) (io), 57 I/O, GCK2 (335) (io), 58 M1 (338) (in), 60 M0 (341) (in), 62 PWRDWN (in), 63 I/O, GCK3 (342) (io), 64 I/O (HDC) (345) (io), 65 I/O (348) (io), 66 I/O (351) (io), 67 I/O (354) (io), 68 I/O (LDC) (357) (io), 69 I/O (366) (io), 70 I/O (369) (io), 71 I/O (372) (io), 72 I/O (375) (io), 73 I/O (378) (io), 74 I/O (381) (io), 76 I/O (384) (io), 77 I/O (387) (io), 78 I/O (390) (io), 79 I/O (393) (io), 81 I/O (396) (io), 82 I/O (399) (io), 84 I/O (408) (io), 85 I/O (411) (io), 86 I/O (414) (io), 87 I/O (417) (io), 88 I/O (420) (io), 89 I/O (INIT) (423) (io), 92 I/O (426) (io), 93 I/O (429) (io), 94 I/O (432) (io), 95 I/O (435) (io), 96 I/O (438) (io), 97 I/O (441) (io), 99 I/O (450) (io), 100 I/O (453) (io), 102 I/O (456) (io), 103 I/O (459) (io), 104 I/O (462) (io), 105 I/O (465) (io), 107 I/O (468) (io), 108 I/O (471) (io), 109 I/O (474) (io), 110 I/O (477) (io), 111 I/O (480) (io), 112 I/O (483) (io), 113 I/O (492) (io), 114 I/O (495) (io), 115 I/O (498) (io), 116 I/O (501) (io), 117 I/O (504) (io), 118 I/O, GCK4 (507) (io), 120 DONE (io), 122 PROGRAM (in), 123 I/O (D7) (510) (io), 124 I/O, GCK5 (513) (io), 125 I/O (516) (io), 126 I/O (519) (io), 127 I/O (522) (io), 128 I/O (525) (io), 129 I/O (D6) (534) (io), 130 I/O (537) (io), 131 I/O (540) (io), 132 I/O (543) (io), 133 I/O (546) (io), 134 I/O (549) (io), 136 I/O (552) (io), 137 I/O (555) (io), 138 I/O (558) (io), 139 I/O (561) (io), 141 I/O (D5) (564) (io), 142 I/O (567) (io), 144 I/O (576) (io), 145 I/O (579) (io), 146 I/O (582) (io), 147 I/O (585) (io), 148 I/O (D4) (588) (io), 149 I/O (591) (io), 152 I/O (D3) (594) (io), 153 I/O (597) (io), 154 I/O (600) (io), 155 I/O (603) (io), 156 I/O (606) (io), 157 I/O (609) (io), 159 I/O (D2) (618) (io), 160 I/O (621) (io), 162 I/O (624) (io), 163 I/O (627) (io), 164 I/O (630) (io), 165 I/O (633) (io), 167 I/O (636) (io), 168 I/O (639) (io), 169 I/O (642) (io), 170 I/O (645) (io), 171 I/O (648) (io), 172 I/O (651) (io), 173 I/O (D1) (654) (io), 174 I/O (657) (io), 175 I/O (666) (io), 176 I/O (669) (io), 177 I/O (D0, DIN) (672) (io), 178 I/O, GCK6 (DOUT) (675) (io), 179 CCLK (io), 181 O, TDO (0) (hiz), 183 I/O (2) (io), 184 I/O, GCK7 (5) (io), 185 I/O (8) (io), 186 I/O (11) (io), 187 I/O (CS1) (14) (io), 188 I/O (17) (io), 189 I/O (26) (io), 190 I/O (29) (io), 191 I/O (32) (io), 192 I/O (35) (io), 193 I/O (38) (io), 194 I/O (41) (io), 195 NC, 197 I/O (44) (io), 198 I/O (47) (io), 199 I/O (50) (io), 200 I/O (53) (io), 202 I/O (62) (io), 203 I/O (65) (io), 205 I/O (68) (io), 206 I/O (71) (io), 207 I/O (74) (io), 208 I/O (77) (io), 209 I/O (80) (io), 210 I/O (83) (io), 213 I/O (86) (io), 214 I/O (89) (io), 215 I/O (92) (io), 216 I/O (95) (io), 217 I/O (98) (io), 218 I/O (101) (io), 220 I/O (104) (io), 221 I/O (107) (io), 223 I/O (116) (io), 224 I/O (119) (io), 225 I/O (122) (io), 226 I/O (125) (io), 228 I/O (128) (io), 229 I/O (131) (io), 230 I/O (134) (io), 231 I/O (137) (io), 232 I/O (140) (io), 233 I/O (143) (io), 234 I/O (152) (io), 235 I/O (155) (io), 236 I/O (158) (io), 237 I/O (161) (io), 238 I/O (164) (io), 239 I/O, GCK8 (167) (io)
part B pins: 1 GND (power), 14 GND (power), 19 VCC (power), 22 GND (power), 29 GND (power), 30 VCC (power), 37 GND (power), 40 VCC (power), 45 GND (power), 59 GND (power), 61 VCC (power), 75 GND (power), 80 VCC (power), 83 GND (power), 90 VCC (power), 91 GND (power), 98 GND (power), 101 VCC (power), 106 GND (power), 119 GND (power), 121 VCC (power), 135 GND (power), 140 VCC (power), 143 GND (power), 150 VCC (power), 151 GND (power), 158 GND (power), 161 VCC (power), 166 GND (power), 180 VCC (power), 182 GND (power), 196 GND (power), 201 VCC (power), 204 GND (power), 211 GND (power), 212 VCC (power), 219 GND (power), 222 VCC (power), 227 GND (power), 240 VCC (power)